# Altium schematic symbol library S4B-XH-A(LF)(SN).SchLib: 1 symbol
Pins are listed as number, name and electrical type; pins without a type are passive.

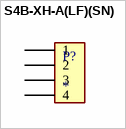
[diagram p0: symbol S4B-XH-A(LF)(SN)]

## S4B-XH-A(LF)(SN)
designator P?
Conn Shrouded Header (4 Sides) HDR 4 POS 2.5mm Solder RA Side Entry Thru-Hole Box; MF: J.S.T. Manufacturing Co; MP: S4B-XH-A(LF)(SN); SnapEDA_Link: https://www.snapeda.com/parts/S4B-XH-A(LF)(SN)/ACT/view-part/?ref=snap; Availability: In Stock; Price: None; Value: *; Check_prices: https://www.snapeda.com/parts/S4B-XH-A(LF)(SN)/ACT/view-part/?ref=eda; Package: None
footprint JST_S4B-XH-A(LF)(SN)
pins: 1, 2, 3, 4